# Altium schematic symbol library Passives.SchLib: 7 symbols
Pins are listed as number, name and electrical type; pins without a type are passive.

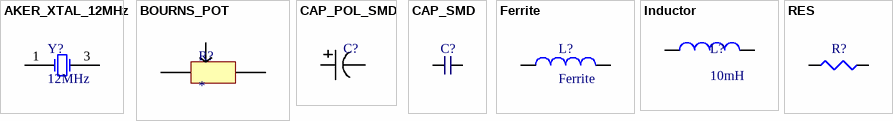
[diagram p0: symbols AKER_XTAL_12MHz to RES]

## AKER_XTAL_12MHz
designator Y?, comment 12MHz
Aker 12MHz crystal 10ppm; PartNumber: C3E-12.000-12-1010-X; Frequency: 12MHz; Supplier 1: Farnell; Supplier Part Number 1: 1640974
footprint AKER_SMD_XTAL_N (SMD Xtal, 2-Leads, Body 3.40x2.70mm, IPC Medium Density)
footprint AMB8 (Abracon AMB8 XTAL footprint)
pins: 1 OSC1, 3 OSC2

## BOURNS_POT
designator R?
Bourns Potentiometer
footprint BOURNS_3310Y
pins: 1, 2, 3

## CAP_POL_SMD
designator C?
Capacitor (polarised)
simulation model CAP (Default semiconductor capacitor)
footprint CAP_ELEC_SMD_RAD_A (Molded Capacitor, 2-Leads, Body 3.60x0.65mm, IPC Medium Density)
footprint CAP_ELEC_SMD_RAD_B (Molded Capacitor, 2-Leads, Body 4.60x0.65mm, IPC Medium Density)
footprint CAP_ELEC_SMD_RAD_C (Molded Capacitor, 2-Leads, Body 5.90x0.65mm, IPC Medium Density)
footprint CAP_ELEC_SMD_RAD_D (Molded Capacitor, 2-Leads, Body 7.00x0.65mm, IPC Medium Density)
footprint CAP_ELEC_SMD_RAD_D8 (Molded Capacitor, 2-Leads, Body 7.00x0.65mm, IPC Medium Density)
footprint CAP_ELEC_SMD_RAD_E (Molded Capacitor, 2-Leads, Body 9.00x0.65mm, IPC Medium Density)
footprint CAP_ELEC_SMD_RAD_F (Molded Capacitor, 2-Leads, Body 9.90x0.85mm, IPC Medium Density)
footprint CAP_ELEC_SMD_RAD_G (Molded Capacitor, 2-Leads, Body 11.60x0.85mm, IPC Medium Density)
pins: 1, 2

## CAP_SMD
designator C?
Capacitor (chip)
simulation model CAP (Default semiconductor capacitor)
footprint CAP0402 (Chip Capacitor, 2-Leads, Body 1.00x0.50mm, IPC Medium Density)
footprint CAP0603 (Chip Capacitor, 2-Leads, Body 1.55x0.80mm, IPC Medium Density)
footprint CAP0805 (Chip Capacitor, 2-Leads, Body 2.00x1.25mm, IPC Medium Density)
footprint CAP1206 (Chip Capacitor, 2-Leads, Body 3.05x1.55mm, IPC Medium Density)
footprint CAP1210 (Chip Capacitor, 2-Leads, Body 3.10x2.40mm, IPC Medium Density)
footprint CAP2010 (Chip Capacitor, 2-Leads, Body 4.90x2.40mm, IPC Medium Density)
footprint CAP2512 (Chip Capacitor, 2-Leads, Body 6.30x3.10mm, IPC Medium Density)
pins: 1, 2

## Ferrite
designator L?
Surface mount ferrite bead; Example Part: Wurth Elektronik 742792011
footprint INDC2012N (0805 Chip Inductor, 2-Leads, Body 2.01x1.25mm, IPC Medium Density)
footprint CAPC1005L (0402 Chip Capacitor, Body 1.0x0.5mm, IPC High Density)
footprint CAPC1608L (0603 Chip Capacitor, Body 1.6x0.8mm, IPC High Density)
pins: 1 P, 2 N

## Inductor
designator L?, comment 10mH
Inductor; Code_IEC: 1005; Published: 8-Jun-2000; LatestRevisionDate: 29-May-2009; LatestRevisionNote: IPC-7351 Footprint Added.; PackageReference: 0402-A; Publisher: Altium Limited; PackageDescription: Chip Inductor; Code_JEITA: 0402; Value: 10mH
simulation model INDUCTOR (Inductor)
signal-integrity model Inductor
footprint RES0603 (Chip Resistor, 2-Leads, Body 1.55x0.80mm, IPC Medium Density)
footprint RES0805 (Chip Resistor, 2-Leads, Body 2.00x1.25mm, IPC Medium Density)
pins: 1, 2

## RES
designator R?
Resistor
simulation model RES (Default semiconductor resistor)
footprint RES0402 (Chip Resistor, 2-Leads, Body 1.00x0.50mm, IPC Medium Density)
footprint RES0603 (Chip Resistor, 2-Leads, Body 1.55x0.80mm, IPC Medium Density)
footprint RES0805 (Chip Resistor, 2-Leads, Body 2.00x1.25mm, IPC Medium Density)
footprint RES1206 (Chip Resistor, 2-Leads, Body 3.05x1.55mm, IPC Medium Density)
footprint RES2010 (Chip Resistor, 2-Leads, Body 4.90x2.40mm, IPC Medium Density)
footprint RES2512 (Chip Resistor, 2-Leads, Body 6.30x3.10mm, IPC Medium Density)
pins: 1, 2